# EAGLE library part 20021121-00014 (library all-connectors)
20021121-00014 Amphenol FCI Minitek127® Board to Board connector, Unshrouded vertical header, Surface Mount, Double Row, 14 Positions, 1.27mm (0.5inch) pitch
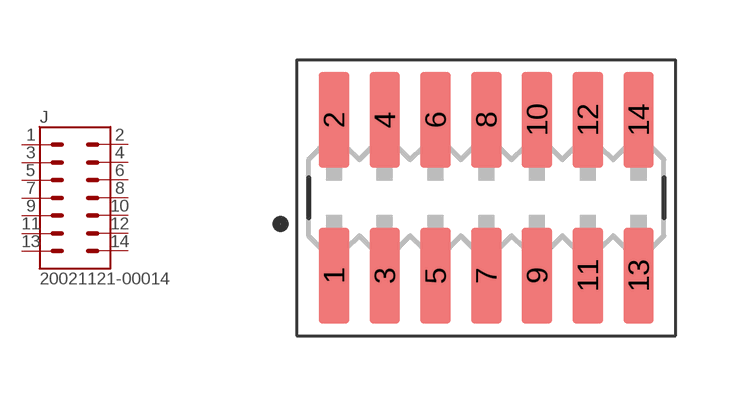
[diagram p0: symbol with the pads of MA07-2_SMD_1.27MM; footprint MA07-2_SMD_1.27MM]

Designator prefix J

## 20021121-00014  [MA07-2_SMD_1.27MM]
1  1  pas
2  2  pas
3  3  pas
4  4  pas
5  5  pas
6  6  pas
7  7  pas
8  8  pas
9  9  pas
10  10  pas
11  11  pas
12  12  pas
13  13  pas
14  14  pas

## Footprint MA07-2_SMD_1.27MM (pad centres in mm)
smd 0.76 x 2.4: 1 -3.81,-1.95; 2 -3.81,1.95; 3 -2.54,-1.95; 4 -2.54,1.95; 5 -1.27,-1.95; 6 -1.27,1.95; 7 0,-1.95; 8 0,1.95; 9 1.27,-1.95; 10 1.27,1.95; 11 2.54,-1.95; 12 2.54,1.95; 13 3.81,-1.95; 14 3.81,1.95